# EAGLE library part INA199A* (library ic-TI)
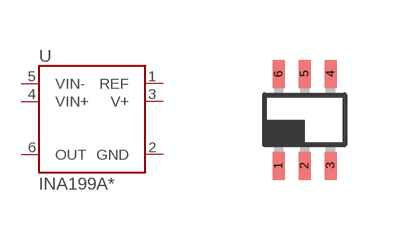
[diagram p29: symbol with the pads of SC70-6; footprint SC70-6]

Designator prefix U

## INA199A1 (GAIN: 50), INA199A2 (GAIN: 100), INA199A3 (GAIN: 200)  [SC70-6]
1  REF  in
2  GND  in
3  V+  in
4  VIN+  in
5  VIN-  in
6  OUT  out

## Footprint SC70-6 (pad centres in mm)
smd 0.3 x 0.7: 1 -0.65,-1.15; 2 0,-1.15; 3 0.65,-1.15; 4 0.65,1.15; 5 0,1.15; 6 -0.65,1.15